# Altium schematic symbol library Schematic_Components.SchLib: 9 symbols
Pins are listed as number, name and electrical type; pins without a type are passive.

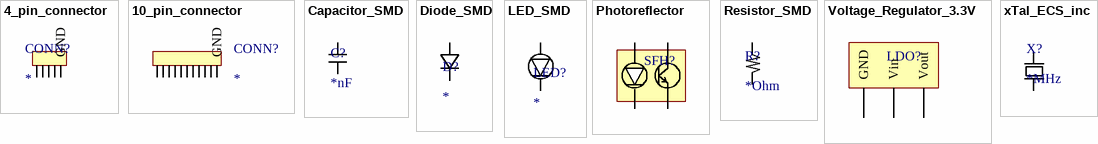
[diagram p0: symbols 4_pin_connector to xTal_ECS_inc]

## 4_pin_connector
designator CONN?
4 Pin Connector
footprint 4PIN_1MMPITCH_FFC_FCP_ZIF
footprint 4Pin_PICO_EZ_MATE_Header
pins: 1, 2, 3, 4, GND

## 10_pin_connector
designator CONN?
10 Pin Connector
footprint 10Pin_1mmpitch_FFC_FCP_ZIF
pins: 1, 2, 3, 4, 5, 6, 7, 8, 9, 10, GND

## Capacitor_SMD
designator C?, comment *nF
SMD Capacitor
footprint Capacitor_20x12
footprint CApacitor_1608
pins: Cap_p1, Cap_p2

## Diode_SMD
designator D?
SMD Diode
footprint DIODE_17x38
pins: Anode, Cathode

## LED_SMD
designator LED?
SMD Blue LED
footprint LED_1608
pins: Anode, Cathode

## Photoreflector
designator SFH?, comment SFH 7250  (value not drawn)
Infrared Emitter - PhTransistor Receiver; Manifacturer: OSram
footprint SFH_SENSOR_34x30
footprint PR-40
pins: LED_Anode, LED_Cathode, PhT_Collector, PhT_Emitter

## Resistor_SMD
designator R?, comment *Ohm
SMD Resistor; Manifacturer: Vishay
footprint Resistor_1608
pins: Res_p1, Res_p2

## Voltage_Regulator_3.3V
designator LDO?, comment Voltage Reg.  (value not drawn)
LDO Voltage Regulator; Manifacturer: ST Microelectronics
footprint LDO_460x260
pins: GND, Vin, Vout

## xTal_ECS_inc
designator X?, comment *MHz
8MHz Crystal/Resonator; Manifacturer: ECS International; Frequency: 8MHz
footprint xTal_150x20
pins: xTal_0, xTal_1